# Altium footprint library SMD-5032_2P.PcbLib: 1 footprints
Each footprint in its own frame and in the unit in brackets; x right, y up, seen from the top. Pads: shape width x height; smd on the part's side, far side on the other; paste and mask are expansions set on the pad; w line width, h text height; cw(c..) or ccw(c..) is an arc to the next point about the centre after c.
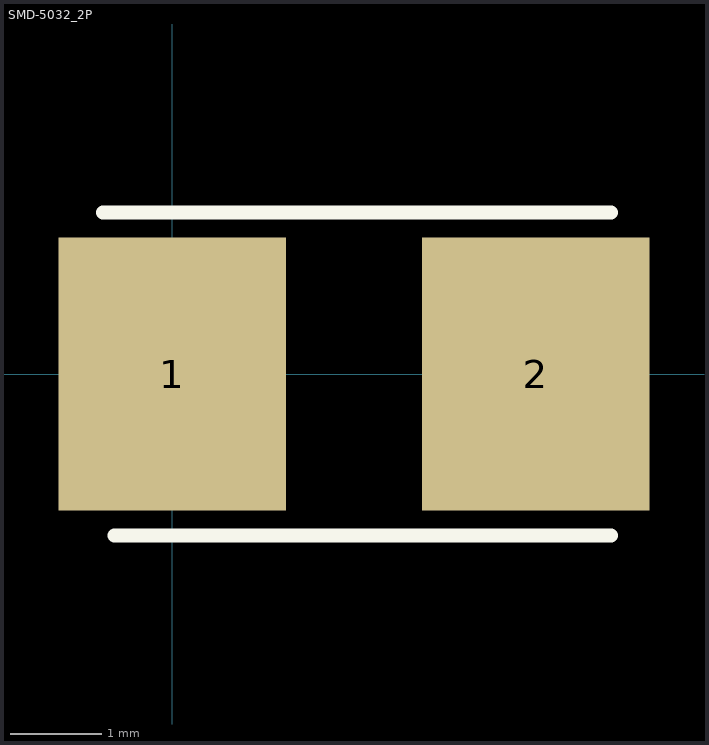
[diagram p0: the footprint, top view; thin cyan lines are the x and y axes]

## SMD-5032_2P [mm]
pads (2):
  rect 2.5x3 smd: 1(0,0) 2(4,0)
Top Overlay:
  lines w0.152: -0.762,1.778 4.826,1.778 ; -0.635,-1.778 4.826,-1.778
3D body: height 1.2, standoff 0, extent -0.508,-1.397 4.572,1.397
3D body: height 2.16, standoff -0.74, extent -0.508,1.778 -0.508,1.778